# EAGLE library part SN74HC161NE4 (library purdue_cs250)
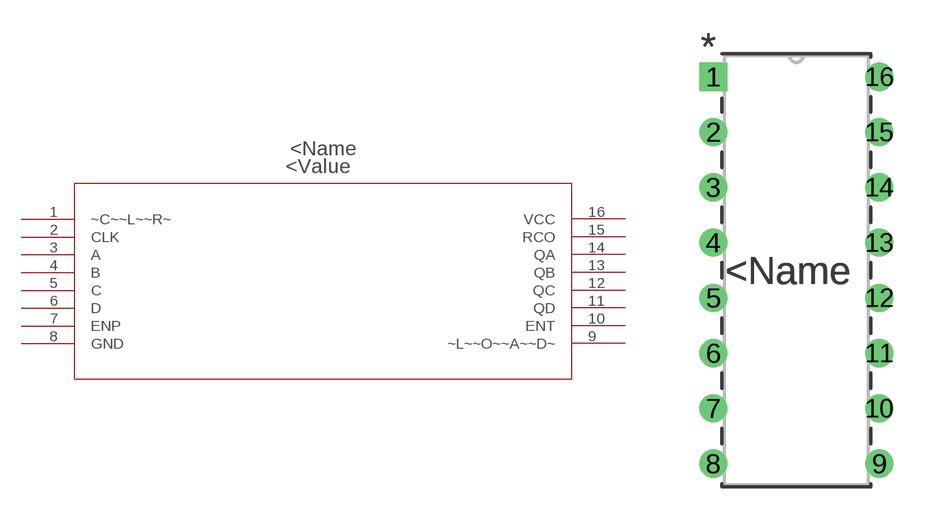
[diagram p2: symbol with the pads of N16; footprint N16]

Designator prefix -

## SN74HC161NE4 (COPYRIGHT: Copyright C 2015 Accelerated Designs. All rights reserved; COUNTRATE: 36MHz; DATASHEET: httpwww.ti.comlitdssymlinksn74hc161.pdf; DESCRIPTION: IC COUNTER 4BIT SYNC BIN 16DIP; DIGIKEYPARTNUMBER: SN74HC161NE4ND; DIRECTION: Up; LOGICTYPE: Binary Counter; MANUFACTURER_PART_NUMBER: SN74HC161NE4; MOUNTINGTYPE: Through Hole; NUMBEROFBITSPERELEMENT: 4; NUMBEROFELEMENTS: 1; OPERATINGTEMPERATURE: 40°C ~ 85°C; PACKAGECASE: 16DIP 0.300" 7.62mm; PACKAGING: Tube; QUANTITY_AVAILABLE: 0; RESET: Asynchronous; SUPPLIERDEVICEPACKAGE: 16PDIP; TIMING: Synchronous; TRIGGERTYPE: Positive Edge; VENDOR: Texas Instruments; VOLTAGESUPPLY: 2 V ~ 6 V)  [N16]
1  ~C~~L~~R~  in
2  CLK  in
3  A  in
4  B  in
5  C  in
6  D  in
7  ENP  in
8  GND  pwr
9  ~L~~O~~A~~D~  in
10  ENT  in
11  QD  out
12  QC  out
13  QB  out
14  QA  out
15  RCO  out
16  VCC  pwr

## Footprint N16 (pad centres in mm)
drill 0.787 pad 1.295 square: 1 -7.62,17.78
drill 0.787 pad 1.295: 2 -7.62,15.24; 3 -7.62,12.7; 4 -7.62,10.16; 5 -7.62,7.62; 6 -7.62,5.08; 7 -7.62,2.54; 8 -7.62,0; 9 0,0; 10 0,2.54; 11 0,5.08; 12 0,7.62; 13 0,10.16; 14 0,12.7; 15 0,15.24; 16 0,17.78